# Altium schematic symbol library SnapEDAsch.SchLib: 1 symbol
Pins are listed as number, name and electrical type; pins without a type are passive.

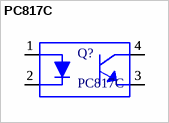
[diagram p0: symbol PC817C]

## PC817C
designator Q?
Optoisolator Transistor Output 5000Vrms 1 Channel 4-DIP / | Designed By @Alixahedi |; MF: Taiwan Semiconductor; Value: *; Availability: Unavailable; SnapEDA_Link: https://www.snapeda.com/parts/PC817C/Taiwan%20Semiconductor%20Corporation/view-part/2816187/?ref=snap; Package: DIP-4 Taiwan Semiconductor; MP: PC817C; Price: None
footprint PC817-DIP
pins: 1, 1, 2, 2, 3, 3, 4, 4